# Altium footprint library Con Mod Jack PCB.PcbLib: 213 footprints (part 1 of 14)
Each footprint in its own frame and in the unit in brackets; x right, y up, seen from the top. Pads: shape width x height; smd on the part's side, far side on the other; paste and mask are expansions set on the pad; w line width, h text height; cw(c..) or ccw(c..) is an arc to the next point about the centre after c.
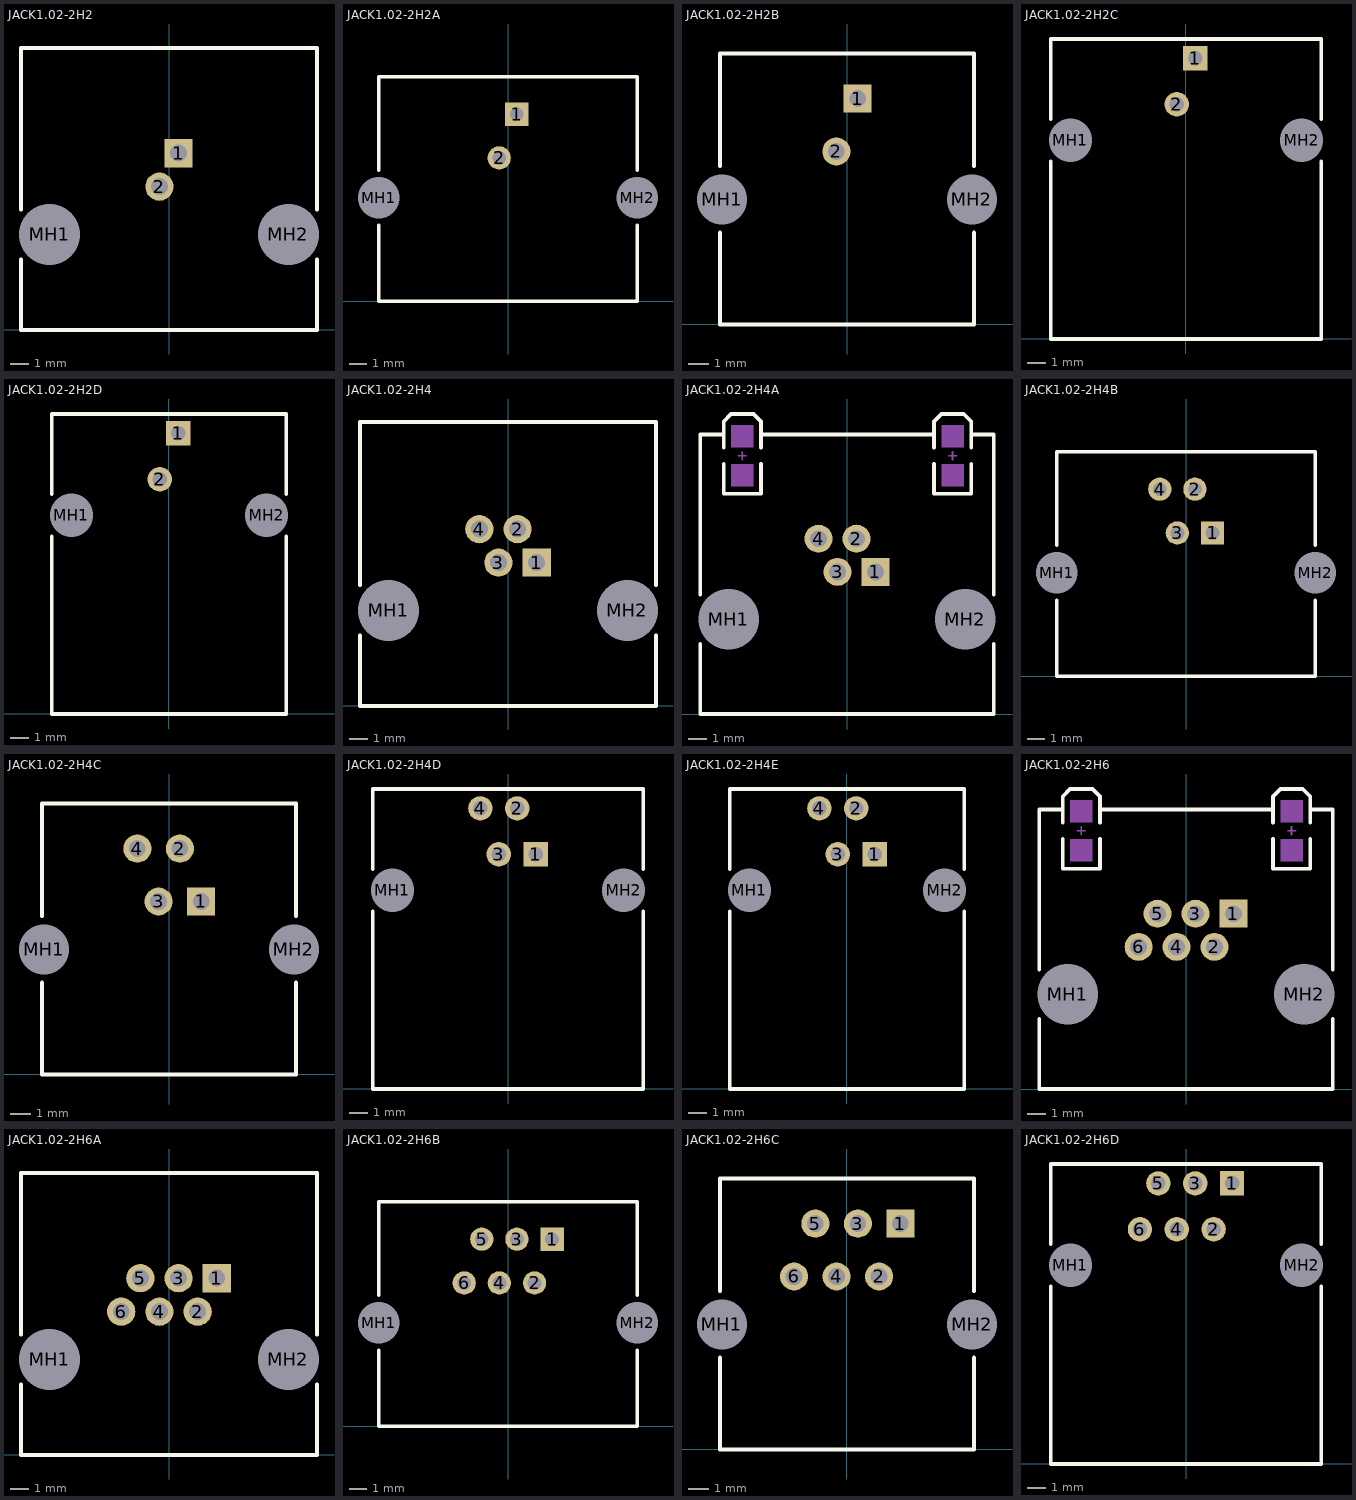
[diagram p0: the footprints below, top view; thin cyan lines are the x and y axes]

## JACK1.02-2H2 [mm] "Connector; PCB Jack, Thru-Hole; 1-Port, 6 Positions, 2 Loaded; Unshielded without Lightpipes; Right Angle"
height 13.21
pads (4):
  rect 1.5x1.5 hole 0.9: 1(0.508,9.398)
  round 1.5 hole 0.9: 2(-0.508,7.62)
  round 2.95 hole 3.25 unplated: MH1(-6.35,5.08) MH2(6.35,5.08)
Top Overlay:
  lines w0.2: -7.875,3.748 -7.875,0 7.875,0 7.875,3.748 ; -7.875,6.412 -7.875,14.99 7.875,14.99 7.875,6.412

## JACK1.02-2H2A [mm] "Connector; PCB Jack, Thru-Hole; 1-Port, 8 Positions, 2 Loaded; Unshielded without Lightpipes; Right Angle"
height 14.5
pads (4):
  rect 1.35x1.35 hole 0.8: 1(0.51,10.84)
  round 1.35 hole 0.8: 2(-0.51,8.3)
  round 2.1 hole 2.4 unplated: MH1(-7.5,6) MH2(7.5,6)
Top Overlay:
  lines w0.2: -7.5,4.4 -7.5,0 7.5,0 7.5,4.4 ; -7.5,7.6 -7.5,13 7.5,13 7.5,7.6

## JACK1.02-2H2B [mm] "Connector; PCB Jack, Thru-Hole; 1-Port, 4 Positions, 2 Loaded; Unshielded without Lightpipes; Right Angle"
height 14.5
pads (4):
  rect 1.35x1.35 hole 0.8: 1(0.51,10.84)
  round 1.35 hole 0.8: 2(-0.51,8.3)
  round 2.1 hole 2.4 unplated: MH1(-6,6) MH2(6,6)
Top Overlay:
  lines w0.2: -6.1,4.4 -6.1,0 6.1,0 6.1,4.4 ; -6.1,7.6 -6.1,13 6.1,13 6.1,7.6

## JACK1.02-2H2C [mm] "Connector; PCB Jack, Thru-Hole; 1-Port, 6 Positions, 2 Loaded; Unshielded without Lightpipes; Right Angle"
height 14.5
pads (4):
  rect 1.35x1.35 hole 0.8: 1(0.51,15.54)
  round 1.35 hole 0.8: 2(-0.51,13)
  round 2.1 hole 2.4 unplated: MH1(-6.4,11) MH2(6.4,11)
Top Overlay:
  lines w0.2: -7.5,9.838 -7.5,0 7.5,0 7.5,9.838 ; -7.5,12.162 -7.5,16.615 7.5,16.615 7.5,12.162

## JACK1.02-2H2D [mm] "Connector; PCB Jack, Thru-Hole; 1-Port, 4 Positions, 2 Loaded; Unshielded without Lightpipes; Right Angle"
height 14.5
pads (4):
  rect 1.35x1.35 hole 0.8: 1(0.51,15.54)
  round 1.35 hole 0.8: 2(-0.51,13)
  round 2.1 hole 2.4 unplated: MH1(-5.4,11) MH2(5.4,11)
Top Overlay:
  lines w0.2: -6.5,9.838 -6.5,0 6.5,0 6.5,9.838 ; -6.5,12.162 -6.5,16.615 6.5,16.615 6.5,12.162

## JACK1.02-2H4 [mm] "Connector; PCB Jack, Thru-Hole; 1-Port, 6 Positions, 4 Loaded; Unshielded without Lightpipes; Right Angle"
height 13.21
pads (6):
  rect 1.5x1.5 hole 0.9: 1(1.524,7.62)
  round 1.5 hole 0.9: 2(0.508,9.398) 3(-0.508,7.62) 4(-1.524,9.398)
  round 2.95 hole 3.25 unplated: MH1(-6.35,5.08) MH2(6.35,5.08)
Top Overlay:
  lines w0.2: -7.875,3.748 -7.875,0 7.875,0 7.875,3.748 ; -7.875,6.412 -7.875,15.09 7.875,15.09 7.875,6.412

## JACK1.02-2H4A [mm] "Connector; PCB Jack, Thru-Hole; 1-Port, 6 Positions, 4 Loaded; Unshielded with Lightpipes; Right Angle"
height 13.21
pads (6):
  rect 1.5x1.5 hole 0.9: 1(1.524,7.62)
  round 1.5 hole 0.9: 2(0.508,9.398) 3(-0.508,7.62) 4(-1.524,9.398)
  round 2.95 hole 3.25 unplated: MH1(-6.35,5.08) MH2(6.35,5.08)
Top Overlay:
  lines w0.2: -7.875,3.748 -7.875,0 7.875,0 7.875,3.748 ; -7.875,6.412 -7.875,14.99 -6.613,14.99 ; -6.613,13.402 -6.613,11.802 -4.613,11.802 -4.613,13.402 ; -6.613,14.284 -6.613,15.684 -6.213,16.084 -5.013,16.084 -4.613,15.684 -4.613,14.284 ; -4.613,14.99 4.664,14.99 ; 4.664,13.402 4.664,11.802 6.664,11.802 6.664,13.402 ; 4.664,14.284 4.664,15.684 5.064,16.084 6.264,16.084 6.664,15.684 6.664,14.284 ; 6.664,14.99 7.875,14.99 7.875,6.412
Mechanical 1:
  rectangle: -6.213,12.202 -5.013,13.402
  rectangle: -6.213,14.284 -5.013,15.484
  rectangle: 5.064,12.202 6.264,13.402
  rectangle: 5.064,14.284 6.264,15.484
  lines w0.1: -5.813,13.843 -5.613,13.843 ; -5.613,13.643 -5.613,13.843 ; -5.613,14.043 -5.613,13.843 ; -5.413,13.843 -5.613,13.843 ; 5.464,13.843 5.664,13.843 ; 5.664,13.643 5.664,13.843 ; 5.664,14.043 5.664,13.843 ; 5.864,13.843 5.664,13.843

## JACK1.02-2H4B [mm] "Connector; PCB Jack, Thru-Hole; 1-Port, 8 Positions, 4 Loaded; Unshielded without Lightpipes; Right Angle"
height 14.5
pads (6):
  rect 1.35x1.35 hole 0.8: 1(1.54,8.3)
  round 1.35 hole 0.8: 2(0.52,10.84) 3(-0.5,8.3) 4(-1.52,10.84)
  round 2.1 hole 2.4 unplated: MH1(-7.5,6) MH2(7.5,6)
Top Overlay:
  lines w0.2: -7.5,4.4 -7.5,0 7.5,0 7.5,4.4 ; -7.5,7.6 -7.5,13 7.5,13 7.5,7.6

## JACK1.02-2H4C [mm] "Connector; PCB Jack, Thru-Hole; 1-Port, 4 Positions, 4 Loaded; Unshielded without Lightpipes; Right Angle"
height 14.5
pads (6):
  rect 1.35x1.35 hole 0.8: 1(1.54,8.3)
  round 1.35 hole 0.8: 2(0.52,10.84) 3(-0.5,8.3) 4(-1.52,10.84)
  round 2.1 hole 2.4 unplated: MH1(-6,6) MH2(6,6)
Top Overlay:
  lines w0.2: -6.1,4.4 -6.1,0 6.1,0 6.1,4.4 ; -6.1,7.6 -6.1,13 6.1,13 6.1,7.6

## JACK1.02-2H4D [mm] "Connector; PCB Jack, Thru-Hole; 1-Port, 6 Positions, 4 Loaded; Unshielded without Lightpipes; Right Angle"
height 14.5
pads (6):
  rect 1.35x1.35 hole 0.8: 1(1.53,13)
  round 1.35 hole 0.8: 2(0.51,15.54) 3(-0.51,13) 4(-1.53,15.54)
  round 2.1 hole 2.4 unplated: MH1(-6.4,11) MH2(6.4,11)
Top Overlay:
  lines w0.2: -7.5,9.838 -7.5,0 7.5,0 7.5,9.838 ; -7.5,12.162 -7.5,16.615 7.5,16.615 7.5,12.162

## JACK1.02-2H4E [mm] "Connector; PCB Jack, Thru-Hole; 1-Port, 4 Positions, 4 Loaded; Unshielded without Lightpipes; Right Angle"
height 14.5
pads (6):
  rect 1.35x1.35 hole 0.8: 1(1.53,13)
  round 1.35 hole 0.8: 2(0.51,15.54) 3(-0.51,13) 4(-1.53,15.54)
  round 2.1 hole 2.4 unplated: MH1(-5.4,11) MH2(5.4,11)
Top Overlay:
  lines w0.2: -6.5,9.838 -6.5,0 6.5,0 6.5,9.838 ; -6.5,12.162 -6.5,16.615 6.5,16.615 6.5,12.162

## JACK1.02-2H6 [mm] "Connector; PCB Jack, Thru-Hole; 1-Port, 6 Positions, 6 Loaded; Unshielded with Lightpipes; Right Angle"
height 13.21
pads (8):
  rect 1.5x1.5 hole 0.9: 1(2.54,9.398)
  round 1.5 hole 0.9: 2(1.524,7.62) 3(0.508,9.398) 4(-0.508,7.62) 5(-1.524,9.398) 6(-2.54,7.62)
  round 2.95 hole 3.25 unplated: MH1(-6.35,5.08) MH2(6.35,5.08)
Top Overlay:
  lines w0.2: -7.875,3.748 -7.875,0 7.875,0 7.875,3.748 ; -7.875,6.412 -7.875,14.99 -6.613,14.99 ; -6.613,13.402 -6.613,11.802 -4.613,11.802 -4.613,13.402 ; -6.613,14.284 -6.613,15.684 -6.213,16.084 -5.013,16.084 -4.613,15.684 -4.613,14.284 ; -4.613,14.99 4.664,14.99 ; 4.664,13.402 4.664,11.802 6.664,11.802 6.664,13.402 ; 4.664,14.284 4.664,15.684 5.064,16.084 6.264,16.084 6.664,15.684 6.664,14.284 ; 6.664,14.99 7.875,14.99 7.875,6.412
Mechanical 1:
  rectangle: 5.064,14.284 6.264,15.484
  rectangle: 5.064,12.202 6.264,13.402
  rectangle: -6.213,14.284 -5.013,15.484
  rectangle: -6.213,12.202 -5.013,13.402
  lines w0.1: -5.813,13.843 -5.613,13.843 ; -5.613,13.643 -5.613,13.843 ; -5.613,14.043 -5.613,13.843 ; -5.413,13.843 -5.613,13.843 ; 5.464,13.843 5.664,13.843 ; 5.664,13.643 5.664,13.843 ; 5.664,14.043 5.664,13.843 ; 5.864,13.843 5.664,13.843

## JACK1.02-2H6A [mm] "Connector; PCB Jack, Thru-Hole; 1-Port, 6 Positions, 6 Loaded; Unshielded without Lightpipes; Right Angle"
height 13.21
pads (8):
  rect 1.5x1.5 hole 0.9: 1(2.54,9.398)
  round 1.5 hole 0.9: 2(1.524,7.62) 3(0.508,9.398) 4(-0.508,7.62) 5(-1.524,9.398) 6(-2.54,7.62)
  round 2.95 hole 3.25 unplated: MH1(-6.35,5.08) MH2(6.35,5.08)
Top Overlay:
  lines w0.2: -7.875,3.748 -7.875,0 7.875,0 7.875,3.748 ; -7.875,6.412 -7.875,14.99 7.875,14.99 7.875,6.412

## JACK1.02-2H6B [mm] "Connector; PCB Jack, Thru-Hole; 1-Port, 8 Positions, 6 Loaded; Unshielded without Lightpipes; Right Angle"
height 14.5
pads (8):
  rect 1.35x1.35 hole 0.8: 1(2.56,10.84)
  round 1.35 hole 0.8: 2(1.54,8.3) 3(0.52,10.84) 4(-0.5,8.3) 5(-1.52,10.84) 6(-2.54,8.3)
  round 2.1 hole 2.4 unplated: MH1(-7.5,6) MH2(7.5,6)
Top Overlay:
  lines w0.2: -7.5,4.4 -7.5,0 7.5,0 7.5,4.4 ; -7.5,7.6 -7.5,13 7.5,13 7.5,7.6

## JACK1.02-2H6C [mm] "Connector; PCB Jack, Thru-Hole; 1-Port, 6 Positions, 6 Loaded; Unshielded without Lightpipes; Right Angle"
height 14.5
pads (8):
  rect 1.35x1.35 hole 0.8: 1(2.56,10.84)
  round 1.35 hole 0.8: 2(1.54,8.3) 3(0.52,10.84) 4(-0.5,8.3) 5(-1.52,10.84) 6(-2.54,8.3)
  round 2.1 hole 2.4 unplated: MH1(-6,6) MH2(6,6)
Top Overlay:
  lines w0.2: -6.1,4.4 -6.1,0 6.1,0 6.1,4.4 ; -6.1,7.6 -6.1,13 6.1,13 6.1,7.6

## JACK1.02-2H6D [mm] "Connector; PCB Jack, Thru-Hole; 1-Port, 6 Positions, 6 Loaded; Unshielded without Lightpipes; Right Angle"
height 14.5
pads (8):
  rect 1.35x1.35 hole 0.8: 1(2.55,15.54)
  round 1.35 hole 0.8: 2(1.53,13) 3(0.51,15.54) 4(-0.51,13) 5(-1.53,15.54) 6(-2.55,13)
  round 2.1 hole 2.4 unplated: MH1(-6.4,11) MH2(6.4,11)
Top Overlay:
  lines w0.2: -7.5,9.838 -7.5,0 7.5,0 7.5,9.838 ; -7.5,12.162 -7.5,16.615 7.5,16.615 7.5,12.162